# Altium schematic symbol library AD4PS-1+.SchLib: 1 symbol
Pins are listed as number, name and electrical type; pins without a type are passive.

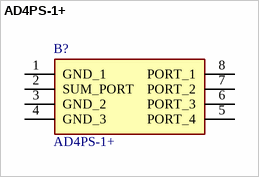
[diagram p0: symbol AD4PS-1+]

## AD4PS-1+
designator B?
Surface Mount Power Splitter/Combiner; Manufacturer_Name: Mini-Circuits; Geometry.Height: 5.46mm; Mouser Part Number: 139-AD4PS-1; Mouser Price/Stock: https://www.mouser.co.uk/ProductDetail/Mini-Circuits/AD4PS-1%2b?qs=xZ%2FP%252Ba9zWqZJZSnldG1sZA%3D%3D; Manufacturer_Part_Number: AD4PS-1+; Datasheet Link: https://datasheet.datasheetarchive.com/originals/distributors/Datasheets-28/DSA-545302.pdf
footprint AD4PS1
pins: 1 GND_1, 2 SUM_PORT, 3 GND_2, 4 GND_3, 5 PORT_4, 6 PORT_3, 7 PORT_2, 8 PORT_1